# EAGLE library part ATM328P (library TQFP328P)
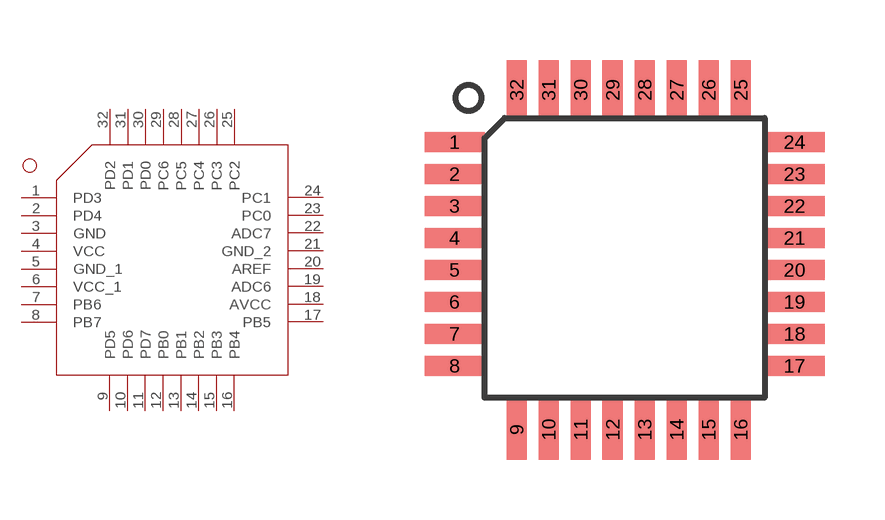
[diagram p0: symbol with the pads of ATM328P; footprint ATM328P]

Designator prefix -

## ATM328P  [ATM328P]
1  PD3
2  PD4
3  GND
4  VCC
5  GND_1
6  VCC_1
7  PB6
8  PB7
9  PD5
10  PD6
11  PD7
12  PB0
13  PB1
14  PB2
15  PB3
16  PB4
17  PB5
18  AVCC
19  ADC6
20  AREF
21  GND_2
22  ADC7
23  PC0
24  PC1
25  PC2
26  PC3
27  PC4
28  PC5
29  PC6
30  PD0
31  PD1
32  PD2

## Footprint ATM328P (pad centres in mm)
smd 1.5 x 0.5: 1 -17.75,2.4; 2 -17.75,1.6; 3 -17.75,0.8; 4 -17.75,0; 5 -17.75,-0.8; 6 -17.75,-1.6; 7 -17.75,-2.4; 8 -17.75,-3.2; 17 -9.25,-3.2; 18 -9.25,-2.4; 19 -9.25,-1.6; 20 -9.25,-0.8; 21 -9.25,0; 22 -9.25,0.8; 23 -9.25,1.6; 24 -9.25,2.4
smd 0.5 x 1.5: 9 -16.2,-4.8; 10 -15.4,-4.8; 11 -14.6,-4.8; 12 -13.8,-4.8; 13 -13,-4.8; 14 -12.2,-4.8; 15 -11.4,-4.8; 16 -10.6,-4.8; 25 -10.6,3.7; 26 -11.4,3.7; 27 -12.2,3.7; 28 -13,3.7; 29 -13.8,3.7; 30 -14.6,3.7; 31 -15.4,3.7; 32 -16.2,3.7